# Altium schematic symbol library AD9833BRMZ.SchLib: 1 symbol
Pins are listed as number, name and electrical type; pins without a type are passive.

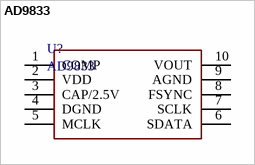
[diagram p0: symbol AD9833]

## AD9833
designator U?
Programmable Waveform Generator
footprint AD9833BRMZ (MSOP - 10pin)
pins: 1 COMP "Termal Pad", 2 VDD "Termal Pad", 3 CAP/2.5V "Termal Pad", 4 DGND "Termal Pad", 5 MCLK "Termal Pad", 6 SDATA "Termal Pad", 7 SCLK "Termal Pad", 8 FSYNC "Termal Pad", 9 AGND "Termal Pad", 10 VOUT "Termal Pad"